# Altium footprint library EVO Library.PcbLib: 16 footprints
Each footprint in its own frame and in the unit in brackets; x right, y up, seen from the top. Pads: shape width x height; smd on the part's side, far side on the other; paste and mask are expansions set on the pad; w line width, h text height; cw(c..) or ccw(c..) is an arc to the next point about the centre after c.
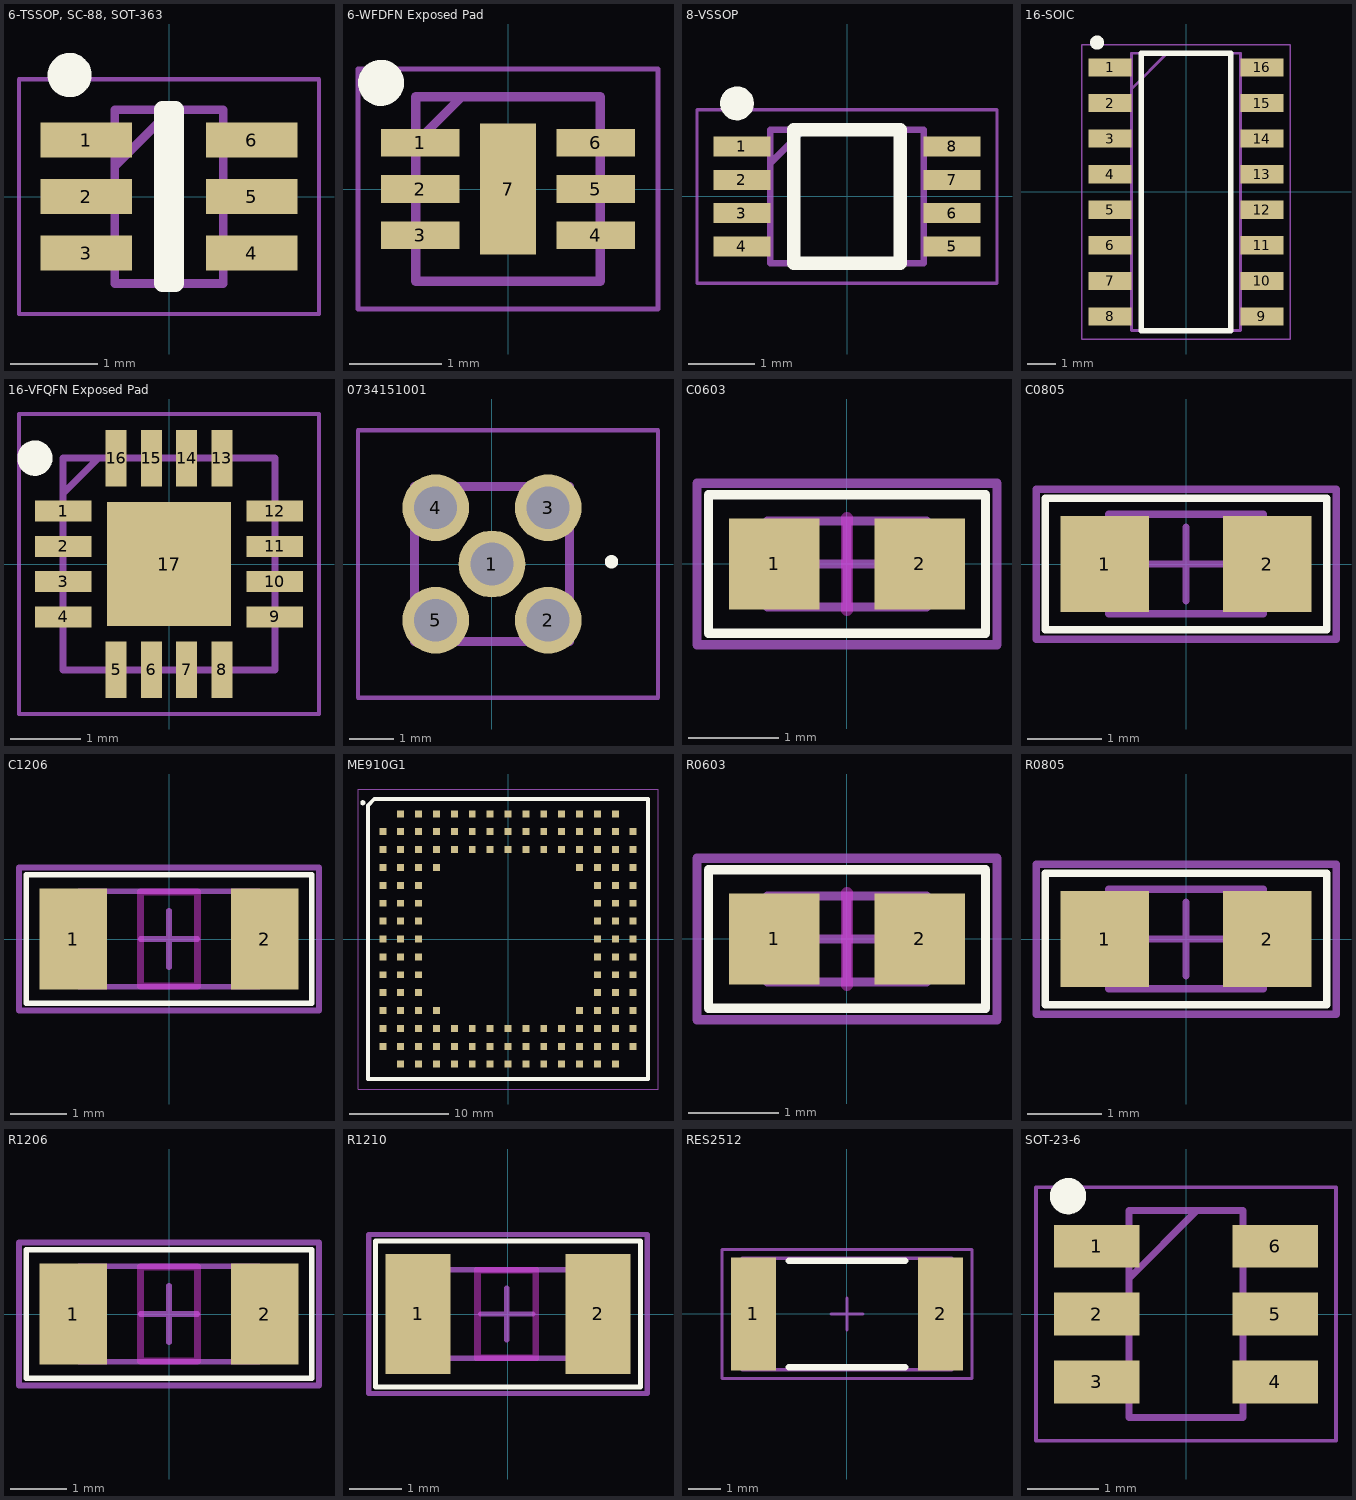
[diagram p0: the footprints below, top view; thin cyan lines are the x and y axes]

## 6-TSSOP, SC-88, SOT-363 [mm] "6-TSSOP, SC-88, SOT-363"
height 1.1
pads (6):
  rect 1.05x0.4 smd: 1(-0.95,0.65) 2(-0.95,0) 3(-0.95,-0.65) 4(0.95,-0.65) 5(0.95,0) 6(0.95,0.65)
Top Overlay:
  circle w0.254: c-1.143,1.397 r0.127
  lines w0.2: -0.075,-1 -0.075,1 0.075,1 0.075,-1 -0.075,-1
Mechanical 13:
  lines w0.1: -0.625,0.35 0.025,1 ; -0.625,-1 -0.625,1 0.625,1 0.625,-1 -0.625,-1
Mechanical 15:
  lines w0.05: -1.725,-1.35 -1.725,1.35 1.725,1.35 1.725,-1.35 -1.725,-1.35
3D body "NLAS4157DFT2G.stp": height 1.1, standoff 0, extent -1.05,-1 1.05,1

## 6-WFDFN Exposed Pad [mm] "6-WFDFN Exposed Pad"
height 0.75
pads (7):
  rect 0.85x0.3 smd: 1(-0.95,0.5) 2(-0.95,0) 3(-0.95,-0.5) 4(0.95,-0.5) 5(0.95,0) 6(0.95,0.5)
  rect 0.61x1.42 smd: 7(0,0)
Top Overlay:
  circle w0.25: c-1.375,1.15 r0.125
Mechanical 13:
  lines w0.1: -1,0.5 -0.5,1 ; -1,-1 -1,1 1,1 1,-1 -1,-1
Mechanical 15:
  lines w0.05: -1.625,-1.3 -1.625,1.3 1.625,1.3 1.625,-1.3 -1.625,-1.3
3D body "LTC3526LBEDC-2#TRMPBF.stp": height 0.8, standoff 0, extent -1.05,-1 1.05,1

## 8-VSSOP [mm] "8-VFSOP (0.091\", 2.30mm Width)"
pads (8):
  rect 0.85x0.3 smd: 1(-1.575,0.75) 2(-1.575,0.25) 3(-1.575,-0.25) 4(-1.575,-0.75) 5(1.575,-0.75) 6(1.575,-0.25) 7(1.575,0.25) 8(1.575,0.75)
Top Overlay:
  circle w0.254: c-1.651,1.397 r0.127
  lines w0.2: -0.8,-1 0.8,-1 0.8,1 -0.8,1 -0.8,-1
Mechanical 13:
  lines w0.1: -1.15,0.5 -0.65,1 ; -1.15,-1 1.15,-1 1.15,1 -1.15,1 -1.15,-1
Mechanical 15:
  lines w0.05: -2.25,-1.3 2.25,-1.3 2.25,1.3 -2.25,1.3 -2.25,-1.3
3D body "PCA9306DCUR.stp": height 0.77, standoff 0, extent -1.55,-1 1.55,1

## 16-SOIC [mm] "16-SOIC (0.154\", 3.90mm Width)"
pads (16):
  rect 1.525x0.65 smd: 1(-2.712,4.445) 2(-2.712,3.175) 3(-2.712,1.905) 4(-2.712,0.635) 5(-2.712,-0.635) 6(-2.712,-1.905) 7(-2.712,-3.175) 8(-2.712,-4.445) 9(2.712,-4.445) 10(2.712,-3.175) 11(2.712,-1.905) 12(2.712,-0.635) 13(2.712,0.635) 14(2.712,1.905) 15(2.712,3.175) 16(2.712,4.445)
Top Overlay:
  circle w0.254: c-3.175,5.334 r0.127
  lines w0.2: -1.6,-4.95 -1.6,4.95 1.6,4.95 1.6,-4.95 -1.6,-4.95
Mechanical 13:
  lines w0.1: -1.95,3.68 -0.68,4.95 ; -1.95,-4.95 -1.95,4.95 1.95,4.95 1.95,-4.95 -1.95,-4.95
Mechanical 15:
  lines w0.05: -3.725,-5.25 -3.725,5.25 3.725,5.25 3.725,-5.25 -3.725,-5.25
3D body "DS2482S-800+.stp": height 1.75, standoff 0, extent -3,-4.95 3,4.95

## 16-VFQFN Exposed Pad [mm] "16-VFQFN Exposed Pad"
height 1
pads (17):
  rect 0.8x0.3 smd: 1(-1.5,0.75) 2(-1.5,0.25) 3(-1.5,-0.25) 4(-1.5,-0.75) 9(1.5,-0.75) 10(1.5,-0.25) 11(1.5,0.25) 12(1.5,0.75)
  rect 0.3x0.8 smd: 5(-0.75,-1.5) 6(-0.25,-1.5) 7(0.25,-1.5) 8(0.75,-1.5) 13(0.75,1.5) 14(0.25,1.5) 15(-0.25,1.5) 16(-0.75,1.5)
  rect 1.75x1.75 smd: 17(0,0)
Top Overlay:
  circle w0.25: c-1.9,1.5 r0.125
Mechanical 13:
  lines w0.1: -1.5,1 -1,1.5 ; -1.5,-1.5 -1.5,1.5 1.5,1.5 1.5,-1.5 -1.5,-1.5
Mechanical 15:
  lines w0.05: -2.125,-2.125 -2.125,2.125 2.125,2.125 2.125,-2.125 -2.125,-2.125
3D body "BQ25504RGTR.stp": height 1, standoff 0, extent -1.5,-1.5 1.5,1.5

## 0734151001 [mm]
pads (5):
  round 1.509 hole 0.97: 1(0,0) 2(1.27,-1.27) 3(1.27,1.27) 4(-1.27,1.27) 5(-1.27,-1.27)
Top Overlay:
  lines w0.2: 2.7,0 ccw(c2.7,0.05) 2.7,0.1 ; 2.7,0 cw(c2.7,0.05) 2.7,0.1 ; 2.7,0 ccw(c2.7,0.05) 2.7,0.1
Mechanical 13:
  lines w0.2: -1.75,-1.75 -1.75,1.75 1.75,1.75 1.75,-1.75 -1.75,-1.75
Mechanical 15:
  lines w0.1: -3.024,-3.024 -3.024,3.024 3.75,3.024 3.75,-3.024 -3.024,-3.024
3D body "0734151001.stp": height 4.01, standoff -5, extent -1.75,-1.75 1.75,1.75

## C0603 [mm] "Capacitor, 0603"
height 0.55
pads (2):
  rect 1x1 smd: 1(-0.8,0) 2(0.8,0)
Top Layer keep-out:
  lines w0.127: 0,-0.508 0,0.508
Top Overlay:
  lines w0.102: -1.524,-0.762 -1.524,0.762 1.524,0.762 1.524,-0.762 -1.524,-0.762
Mechanical 13:
  lines w0.1: -0.875,-0.475 -0.875,0.475 0.875,0.475 0.875,-0.475 -0.875,-0.475
Mechanical 15:
  lines w0.1: -0.475,0 0.475,0 ; 0,-0.475 0,0.475 ; -1.651,-0.889 -1.651,0.889 1.651,0.889 1.651,-0.889 -1.651,-0.889
3D body "06035A102FAT2A.stp": height 0.9, standoff 0, extent -0.8,-0.405 0.8,0.405

## C0805 [mm]
height 0.5
pads (2):
  rect 1.2x1.3 smd: 1(-1.1,0) 2(1.1,0)
Top Overlay:
  lines w0.102: -1.905,-0.889 -1.905,0.889 1.905,0.889 1.905,-0.889 -1.905,-0.889
Mechanical 13:
  lines w0.1: -1.05,-0.675 1.05,-0.675 1.05,0.675 -1.05,0.675 -1.05,-0.675
Mechanical 15:
  lines w0.1: -0.5,0 0.5,0 ; 0,-0.5 0,0.5
  lines w0.102: -2.032,-1.016 2.032,-1.016 2.032,1.016 -2.032,1.016 -2.032,-1.016
3D body "0805YG105ZAT2A.stp": height 1.47, standoff 0, extent -1.005,-0.625 1.005,0.625

## C1206 [mm] "1206 Footprint"
height 0.65
pads (2):
  rect 1.2x1.8 smd: 1(-1.7,0) 2(1.7,0)
Top Layer keep-out:
  lines w0.127: -0.508,-0.838 -0.508,0.838 0.508,0.838 0.508,-0.838 -0.508,-0.838
Top Overlay:
  lines w0.102: -2.54,-1.143 2.54,-1.143 2.54,1.143 -2.54,1.143 -2.54,-1.143
Mechanical 13:
  lines w0.1: -1.6,-0.85 -1.6,0.85 1.6,0.85 1.6,-0.85 -1.6,-0.85
Mechanical 15:
  lines w0.1: -0.5,0 0.5,0 ; 0,-0.5 0,0.5
  lines w0.102: -2.667,-1.27 -2.667,1.27 2.667,1.27 2.667,-1.27 -2.667,-1.27
3D body "1206.stp": height 1.63, standoff 0, extent -1.59,-0.76 1.59,0.76

## ME910G1 [mm] "ME910G1-Wx CAT M1/NB2 Module"
height 2.4
pads (144):
  rect 0.7x0.7 smd: A2(-12.6,10.8) A3(-12.6,9) A4(-12.6,7.2) A5(-12.6,5.4) A6(-12.6,3.6) A7(-12.6,1.8) A8(-12.6,0) A9(-12.6,-1.8) A10(-12.6,-3.6) A11(-12.6,-5.4) A12(-12.6,-7.2) A13(-12.6,-9) A14(-12.6,-10.8) B1(-10.8,12.6) B2(-10.8,10.8) B3(-10.8,9) B4(-10.8,7.2) B5(-10.8,5.4) B6(-10.8,3.6) B7(-10.8,1.8) B8(-10.8,0) B9(-10.8,-1.8) B10(-10.8,-3.6) B11(-10.8,-5.4) B12(-10.8,-7.2) B13(-10.8,-9) B14(-10.8,-10.8) B15(-10.8,-12.6) C1(-9,12.6) C2(-9,10.8) C3(-9,9) C4(-9,7.2) C5(-9,5.4) C6(-9,3.6) C7(-9,1.8) C8(-9,0) C9(-9,-1.8) C10(-9,-3.6) C11(-9,-5.4) C12(-9,-7.2) C13(-9,-9) C14(-9,-10.8) C15(-9,-12.6) D1(-7.2,12.6) D2(-7.2,10.8) D3(-7.2,9) D4(-7.2,7.2) D12(-7.2,-7.2) D13(-7.2,-9) D14(-7.2,-10.8) D15(-7.2,-12.6) E1(-5.4,12.6) E2(-5.4,10.8) E3(-5.4,9) E13(-5.4,-9) E14(-5.4,-10.8) E15(-5.4,-12.6) F1(-3.6,12.6) F2(-3.6,10.8) F3(-3.6,9) F13(-3.6,-9) F14(-3.6,-10.8) F15(-3.6,-12.6) G1(-1.8,12.6) G2(-1.8,10.8) G3(-1.8,9) G13(-1.8,-9) G14(-1.8,-10.8) G15(-1.8,-12.6) H1(0,12.6) H2(0,10.8) H3(0,9) H13(0,-9) H14(0,-10.8) H15(0,-12.6) J1(1.8,12.6) J2(1.8,10.8) J3(1.8,9) J13(1.8,-9) J14(1.8,-10.8) J15(1.8,-12.6) K1(3.6,12.6) K2(3.6,10.8) K3(3.6,9) K13(3.6,-9) K14(3.6,-10.8) K15(3.6,-12.6) L1(5.4,12.6) L2(5.4,10.8) L3(5.4,9) L13(5.4,-9) L14(5.4,-10.8) L15(5.4,-12.6) M1(7.2,12.6) M2(7.2,10.8) M3(7.2,9) M4(7.2,7.2) M12(7.2,-7.2) M13(7.2,-9) M14(7.2,-10.8) M15(7.2,-12.6) N1(9,12.6) N2(9,10.8) N3(9,9) N4(9,7.2) N5(9,5.4) N6(9,3.6) N7(9,1.8) N8(9,0) N9(9,-1.8) N10(9,-3.6) N11(9,-5.4) N12(9,-7.2) N13(9,-9) N14(9,-10.8) N15(9,-12.6) P1(10.8,12.6) P2(10.8,10.8) P3(10.8,9) P4(10.8,7.2) P5(10.8,5.4) P6(10.8,3.6) P7(10.8,1.8) P8(10.8,0) P9(10.8,-1.8) P10(10.8,-3.6) P11(10.8,-5.4) P12(10.8,-7.2) P13(10.8,-9) P14(10.8,-10.8) P15(10.8,-12.6) R2(12.6,10.8) R3(12.6,9) R4(12.6,7.2) R5(12.6,5.4) R6(12.6,3.6) R7(12.6,1.8) R8(12.6,0) R9(12.6,-1.8) R10(12.6,-3.6) R11(12.6,-5.4) R12(12.6,-7.2) R13(12.6,-9) R14(12.6,-10.8)
Top Overlay:
  circle w0.254: c-14.605,13.716 r0.127
  lines w0.2: -14.1,-14.1 14.1,-14.1 14.1,14.1
  lines w0.4: -14.113,-14.115 -14.113,13.446 -13.462,14.097 14.087,14.097 14.113,-14.115 -14.087,-14.115
Mechanical 13:
  lines w0.1: -14.1,-14.1 14.1,-14.1 14.1,14.1
Mechanical 15:
  lines w0.1: -15.1,-15.1 -15.1,15.1 15.1,15.1 15.1,-15.1 -15.1,-15.1
3D body "ME910G1W101T010100.stp": height 2.65, standoff 0, extent -14.1,-14.1 14.1,14.1

## R0603 [mm] "Resistor, 0603"
height 0.55
pads (2):
  rect 1x1 smd: 1(-0.8,0) 2(0.8,0)
Top Layer keep-out:
  lines w0.127: 0,-0.508 0,0.508
Top Overlay:
  lines w0.102: -1.524,-0.762 1.524,-0.762 1.524,0.762 -1.524,0.762 -1.524,-0.762
Mechanical 13:
  lines w0.1: -0.875,-0.475 0.875,-0.475 0.875,0.475 -0.875,0.475 -0.875,-0.475
Mechanical 15:
  lines w0.1: -0.475,0 0.475,0 ; 0,-0.475 0,0.475
  lines w0.102: -1.651,-0.889 1.651,-0.889 1.651,0.889 -1.651,0.889 -1.651,-0.889
3D body "RK73H1JTTDD2R00F.stp": height 0.55, standoff 0, extent -0.8,-0.4 0.8,0.4

## R0805 [mm]
height 0.5
pads (2):
  rect 1.2x1.3 smd: 1(-1.1,0) 2(1.1,0)
Top Overlay:
  lines w0.102: -1.905,-0.889 1.905,-0.889 1.905,0.889 -1.905,0.889 -1.905,-0.889
Mechanical 13:
  lines w0.1: -1.05,-0.675 1.05,-0.675 1.05,0.675 -1.05,0.675 -1.05,-0.675
Mechanical 15:
  lines w0.1: -0.5,0 0.5,0 ; 0,-0.5 0,0.5
  lines w0.102: -2.032,-1.016 2.032,-1.016 2.032,1.016 -2.032,1.016 -2.032,-1.016
3D body "CRGH0805F20K5.stp": height 0.65, standoff 0, extent -0.959,-0.637 1.041,0.638

## R1206 [mm] "1206 Footprint"
height 0.65
pads (2):
  rect 1.2x1.8 smd: 1(-1.7,0) 2(1.7,0)
Top Layer keep-out:
  lines w0.127: -0.508,-0.838 -0.508,0.838 0.508,0.838 0.508,-0.838 -0.508,-0.838
Top Overlay:
  lines w0.102: -2.54,-1.143 2.54,-1.143 2.54,1.143 -2.54,1.143 -2.54,-1.143
Mechanical 13:
  lines w0.1: -1.6,-0.85 -1.6,0.85 1.6,0.85 1.6,-0.85 -1.6,-0.85
Mechanical 15:
  lines w0.1: -0.5,0 0.5,0 ; 0,-0.5 0,0.5
  lines w0.102: -2.667,-1.27 -2.667,1.27 2.667,1.27 2.667,-1.27 -2.667,-1.27
3D body "KTR18EZPJ625.stp": height 0.65, standoff 0, extent -1.6,-0.8 1.6,0.8

## R1210 [mm] "1210 Footprint"
height 0.65
pads (2):
  rect 1.25x2.3 smd: 1(-1.725,0) 2(1.725,0)
Top Layer keep-out:
  lines w0.127: -0.584,-0.838 0.533,-0.838 0.533,0.838 -0.584,0.838 -0.584,-0.838
Top Overlay:
  lines w0.1: -2.54,-1.397 2.54,-1.397 2.54,1.397 -2.54,1.397 -2.54,-1.397
Mechanical 13:
  lines w0.1: -1.624,-0.85 -1.624,0.85 1.576,0.85 1.576,-0.85 -1.624,-0.85
Mechanical 15:
  lines w0.1: -0.524,0 0.476,0 ; -0.024,-0.5 -0.024,0.5 ; -2.667,-1.524 -2.667,1.524 2.667,1.524 2.667,-1.524 -2.667,-1.524
3D body "ERJP14J222U.stp": height 0.6, standoff 0, extent -1.6,-1.25 1.6,1.25

## RES2512 [mm]
height 0.7
pads (2):
  rect 1.4x3.5 smd: 1(-2.9,0) 2(2.9,0)
Top Overlay:
  lines w0.2: -1.8,-1.65 1.8,-1.65 ; -1.8,1.65 1.8,1.65
Mechanical 13:
  lines w0.1: -3.25,-1.725 3.25,-1.725 3.25,1.725 -3.25,1.725 -3.25,-1.725
Mechanical 15:
  lines w0.1: -0.5,0 0.5,0 ; 0,-0.5 0,0.5 ; -3.875,-2 3.875,-2 3.875,2 -3.875,2 -3.875,-2
3D body "ERJ1TRSFR12U.stp": height 0.6, standoff 0, extent -3.2,-1.6 3.2,1.6

## SOT-23-6 [mm] "SOT-23-6"
height 1.45
pads (6):
  rect 1.2x0.6 smd: 1(-1.25,0.95) 2(-1.25,0) 3(-1.25,-0.95) 4(1.25,-0.95) 5(1.25,0) 6(1.25,0.95)
Top Overlay:
  circle w0.254: c-1.651,1.651 r0.127
Mechanical 13:
  lines w0.1: -0.8,0.5 0.15,1.45 ; -0.8,-1.45 -0.8,1.45 0.8,1.45 0.8,-1.45 -0.8,-1.45
Mechanical 15:
  lines w0.05: -2.1,-1.775 -2.1,1.775 2.1,1.775 2.1,-1.775 -2.1,-1.775
3D body "TPS3808G01DBVR.stp": height 1.45, standoff 0, extent -1.4,-1.45 1.4,1.45